# EAGLE library part PMOD_JE (library ov7670)
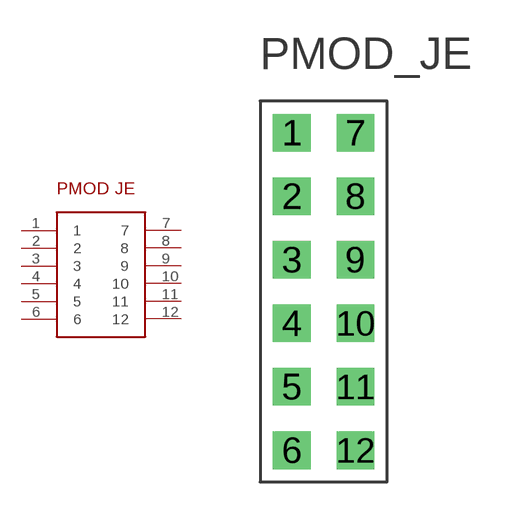
[diagram p1: symbol with the pads of PMOD_JE; footprint PMOD_JE]

Designator prefix -

## PMOD_JE  [PMOD_JE]
1  1
2  2
3  3
4  4
5  5
6  6
7  7
8  8
9  9
10  10
11  11
12  12

## Footprint PMOD_JE (pad centres in mm)
drill 1 square: 1 0,6.35; 2 0,3.81; 3 0,1.27; 4 0,-1.27; 5 0,-3.81; 6 0,-6.35; 7 2.54,6.35; 8 2.54,3.81; 9 2.54,1.27; 10 2.54,-1.27; 11 2.54,-3.81; 12 2.54,-6.35